# Altium schematic symbol library SmartInverter.SchLib: 67 symbols
Pins are listed as number, name and electrical type; pins without a type are passive.

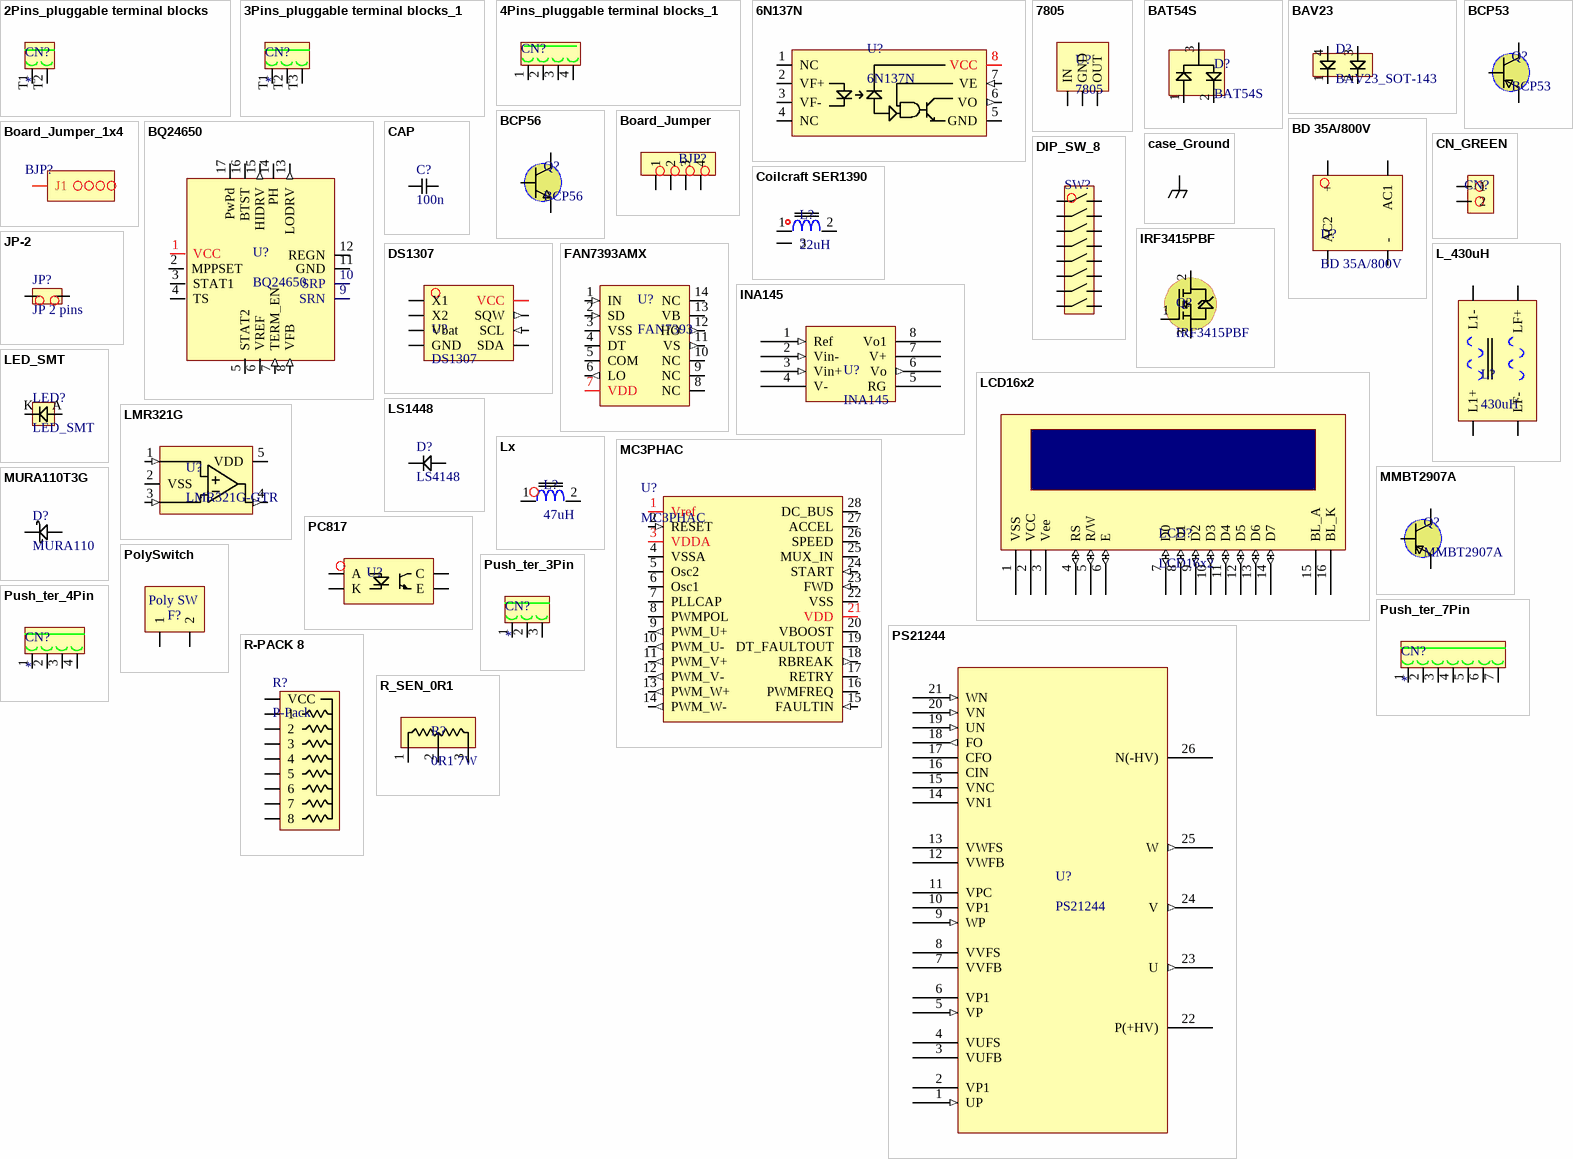
[diagram p0: symbols 2Pins_pluggable terminal blocks to R_SEN_0R1]

## 2Pins_pluggable terminal blocks
designator CN?
footprint 2Pins_terminal blocks_H
pins: T1, T2

## 3Pins_pluggable terminal blocks_1
designator CN?
footprint 3Pins_terminal blocks_H
pins: T1, T2, T3

## 4Pins_pluggable terminal blocks_1
designator CN?  (value not drawn)
footprint 4Pins_pluggable terminal blocks
pins: 1, 2, 3, 4

## 6N137N
designator U?
Opto Isolate 1MHz
footprint DIP-8_3D (DIP, 8-Pin, Row Spacing 7.62 mm, Pitch 2.54 mm)
pins: 1 NC (hiz), 2 VF+, 3 VF-, 4 NC (hiz), 5 GND, 6 VO (out), 7 VE (in), 8 VCC (power)

## 7805
designator U?
footprint TO-220AB (TO, Thru-Hole, Vertical, Heatsink Mounted; 3 In-Line Leads; Pitch 2.54 mm)
pins: 1 IN (power), 2 GND (power), 3 OUT (power)

## BAT54S
designator D?
Schottky Diodes 30V/200mA
footprint SOT23-3M (SOT23, 3-Leads, Body 2.9x1.3mm, Pitch 0.95mm, Lead Span 2.5mm, IPC Low Density)
pins: 1 A1, 2 K2, 3 K1/A2

## BAV23
designator D?, comment BAV23_SOT-143
footprint BAV23_SOT-143 (SOT-143 4 Leads; Body 3 x 3 mm, inc. leads (LxW max))
pins: 1 K1, 2 K2, 3 A2, 4 A1

## BCP53
designator Q?
NPN 80V/1A
footprint SOT223-4M (SOT223, 4-Leads, Body 6.5x3.5mm, Pitch 2.3mm, Lead Span 7mm, IPC Low Density)
pins: 1 B, 2 C, 3 E

## BCP56
designator Q?
NPN 80V/1A
footprint SOT223-4M (SOT223, 4-Leads, Body 6.5x3.5mm, Pitch 2.3mm, Lead Span 7mm, IPC Low Density)
pins: 1 B, 2 C, 3 E

## BD 35A/800V
designator D?
GBPC3508
footprint BD 35A
pins: +, -, AC1, AC2

## Board_Jumper
designator BJP?  (value not drawn)
footprint HDR1X4H
pins: 1, 2, 3, 4

## Board_Jumper_1x4
designator BJP?  (value not drawn)
footprint Board_Jumper_1x4
pins: J1

## BQ24650
designator U?
footprint PVQFN-N16 (BQ24650)
pins: 1 VCC (power), 2 MPPSET, 3 STAT1 (oc), 4 TS, 5 STAT2 (oc), 6 VREF, 7 TERM_EN (in), 8 VFB (in), 9 SRN, 10 SRP, 11 GND (power), 12 REGN, 13 LODRV (out), 14 PH, 15 HIDRV (out), 16 BTST, 17 PwPd (hiz)

## CAP
designator C?, comment 100n
footprint 2012[0805] - CAP (Chip Capacitor; Body 2.0 x 1.2 mm (LxW typ))
pins: 1, 2

## case_Ground
designator case_Ground, comment GND  (value not drawn)
footprint Case_GND
pins: 1

## CN_GREEN
designator CN?, comment CN_5mm  (value not drawn)
CN_pitch_5mm
footprint CN_GREEN (pitch 5mm)
pins: 1, 2

## Coilcraft SER1390
designator L?, comment 22uH
Coilcraft SER1390
footprint L47uH_2.5A (SM Inductor; 2 Leads; Body 12x12mm (LxW))
pins: 1, 2, 3

## DIP_SW_8
designator SW?, comment DIP-SW8  (value not drawn)
footprint Dip Sw 2x8
pins: 1, 2, 3, 4, 5, 6, 7, 8, 9, 10, 11, 12, 13, 14, 15, 16

## DS1307
designator U?
DS1307_SO-8
footprint SO8_M_3D (8-Pin Small Outline Integrated Circuit 1.27 mm Pitch, IPC Low Density)
pins: 1 X1, 2 X2, 3 Vbat, 4 GND (power), 5 SDA (io), 6 SCL (in), 7 SQW (out), 8 VCC (power)

## FAN7393AMX
designator U?, comment FAN7393
footprint SOP14
pins: 1 IN (in), 2 SD (in), 3 VSS (power), 4 DT, 5 COM (power), 6 LO (out), 7 VDD (power), 8 NC (hiz), 9 NC (hiz), 10 NC (hiz), 11 VS (out), 12 HO (out), 13 VB, 14 NC (hiz)

## INA145
designator U?
DIFFERENCE AMPLIFIER
footprint SO8_M_3D (8-Pin Small Outline Integrated Circuit 1.27 mm Pitch, IPC Low Density)
pins: 1 Ref (in), 2 Vin- (in), 3 Vin+ (in), 4 V- (power), 5 RG, 6 Vo (out), 7 V+ (power), 8 Vo1

## IRF3415PBF
designator Q?
POWER MOSFET N-CHANNEL 150V/43A
footprint TO-220AB (TO, Thru-Hole, Vertical, Heatsink Mounted; 3 In-Line Leads; Pitch 2.54 mm)
pins: 1 G, 2 D, 3 S

## JP-2
designator JP?, comment JP 2 pins
JP 2 pins 2.54mm
footprint Jumper (Jumper 2.54mm)
pins: 1, 2

## L_430uH
designator L?, comment 430uH
L 430uH 8A
footprint L_430uH
pins: 1 L1+, 2 L1-, 3 LF-, 4 LF+

## LCD16x2
designator LCD?
footprint LCD16
pins: 1 VSS (power), 2 VCC (power), 3 Vee, 4 RS (io), 5 R/W (io), 6 E (io), 7 D0 (io), 8 D1 (io), 9 D2 (io), 10 D3 (io), 11 D4 (io), 12 D5 (io), 13 D6 (io), 14 D7 (io), 15 BL_A (power), 16 BL_K (power)

## LED_SMT
designator LED?
LED_SMT,1206
footprint 3216[1206] - LED (Chip Capacitor; Body 3.2 x 1.6 mm (LxW typ))
pins: A, K

## LMR321G
designator U?, comment LMR321G-GTR
LMR321G-GTR OPAMP
footprint LMR321 (SOT-23/SC-74A; 5 Leads; Body 3 x 3 mm, inc. leads (LxW max))
pins: 1 +In (in), 2 VSS (power), 3 -In (in), 4 OUT (out), 5 VDD (power)

## LS1448
designator D?, comment LS4148
LS1448
footprint SOD-80_1206 (LS4148 Chip Diode; Body 3.2 x 1.6 mm)
pins: 1 A, 2 K

## Lx
designator L?, comment 47uH
47uH 2.5A B82477G4473M
footprint L47uH_2.5A (SM Inductor; 2 Leads; Body 12x12mm (LxW))
pins: 1, 2

## MC3PHAC
designator U?
Monolithic Intelligent  Motor Controller
footprint DIP-28 (DIP, 40-Pin, Row Spacing 15.24 mm, Pitch 2.54 mm)
pins: 1 Vref (power), 2 RESET (in), 3 VDDA (power), 4 VSSA (power) "GND", 5 Osc2, 6 Osc1, 7 PLLCAP, 8 PWMPOL, 9 PWM_U+ (out), 10 PWM_U- (out), 11 PWM_V+ (out), 12 PWM_V- (out), 13 PWM_W+ (out), 14 PWM_W- (out), 15 FAULTIN (in), 16 PWMFREQ, 17 RETRY, 18 RBREAK (out), 19 DT_FAULTOUT, 20 VBOOST, 21 VDD (power), 22 VSS (power) "GND", 23 FWD (in), 24 START (in), 25 MUX_IN, 26 SPEED, 27 ACCEL, 28 DC_BUS

## MMBT2907A
designator Q?
PNP
footprint SOT23 (SOT-23; 3 Leads; Body 3.0 x 2.6 mm, inc. leads (LxW max))
pins: 1 B, 2 E, 3 C

## MURA110T3G
designator D?, comment MURA110
MURA110T3G 1A/100V
footprint DO-214AC_SMA
pins: 1 A, 2 K

## PC817
designator U?  (value not drawn)
Opto
footprint PC817_SMD
pins: 1 A, 2 K, 3 E, 4 C

## PolySwitch
designator F?, comment Poly_SW  (value not drawn)
polyswitch 1.6A 72V
footprint Poly Switch (pitch 5mm)
pins: 1, 2
text: Poly SW

## PS21244
designator U?
MITSUBISHI Power Module
footprint MITSUBISHI DIP26
pins: 1 UP (in), 2 VP1 (power), 3 VUFB, 4 VUFS, 5 VP (in), 6 VP1 (power), 7 VVFB, 8 VVFS, 9 WP (in), 10 VP1 (power), 11 VPC (power), 12 VWFB, 13 VWFS, 14 VN1 (power), 15 VNC (power), 16 CIN, 17 CFO, 18 FO (out), 19 UN (in), 20 VN (in), 21 WN (in), 22 P(+HV) (power), 23 U (out), 24 V (out), 25 W (out), 26 N(-HV) (power), 27 NC (hiz) hidden, 28 NC (hiz) hidden

## Push_ter_3Pin
designator CN?
pitch 5, 10mm
footprint Push_Ter_3Pin (pitch 5*10)
pins: 1, 2, 3

## Push_ter_4Pin
designator CN?
pitch 2.5,5 mm
footprint Push_Ter_4Pin (pitch 2.5x5)
pins: 1, 2, 3, 4

## Push_ter_7Pin
designator CN?
pitch 5, 10mm
footprint Push_Ter_7Pin (pitch 5*10)
pins: 1, 2, 3, 4, 5, 6, 7

## R-PACK 8
designator R?, comment P-Pack
P-Pack 8
footprint R-PACK (res x 8)
pins: 1, 2, 3, 4, 5, 6, 7, 8, VCC

## R_SEN_0R1
designator R?, comment 0R1 7W
0R1 7W , Sensor Current
footprint R_SEN_0R1_7W
pins: 1, 2, 3

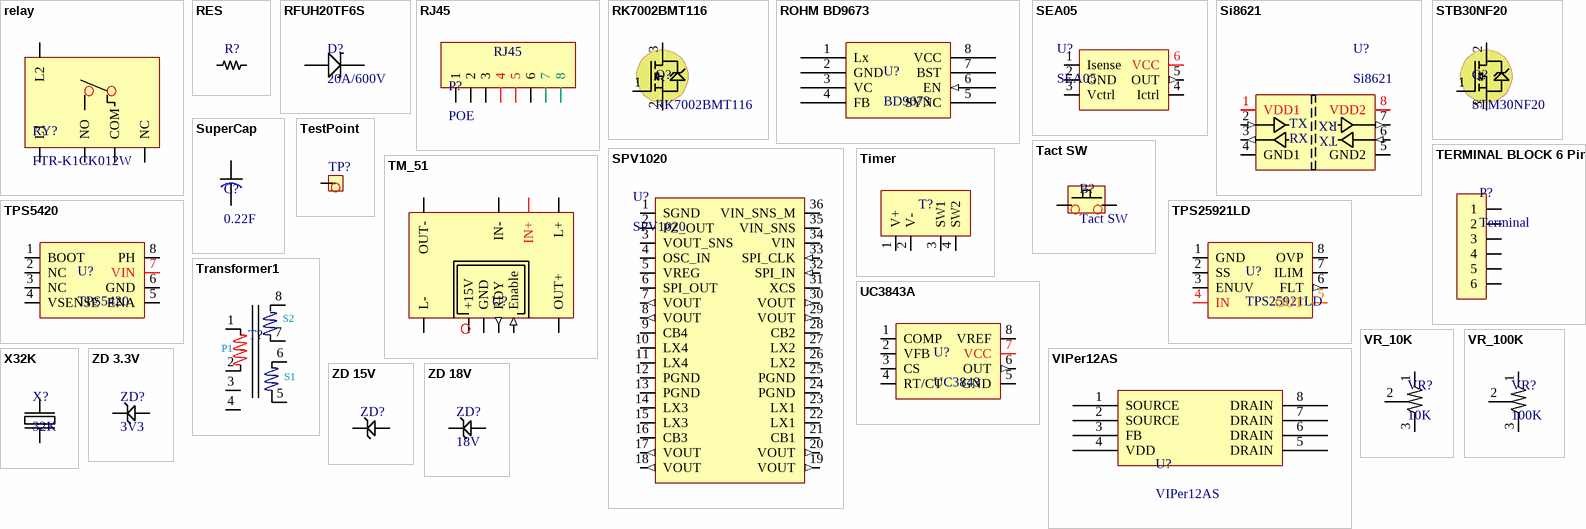
[diagram p1: symbols relay to ZD 18V]

## relay
designator RY?, comment FTR-K1CK012W
footprint Relay_12V (FTR-K1CK012W)
pins: 1 L1, 2 L2, 3 NO, 4 COM, 5 NC

## RES
designator R?, comment R  (value not drawn)
Res 0805
footprint 2012[0805] (Chip Resistor; Body 2.0 x 1.3 mm (LxW typ))
pins: 1, 2

## RFUH20TF6S
designator D?, comment 20A/600V
RFUH20TF6S 20A/600V
footprint RFUH20TF6S (Super Fast Rec 20A/600V)
pins: 1 K, 2 A

## RJ45
designator P?, comment POE
footprint RJ45 (ES# AJ-031-8-F-L4-N)
pins: 1, 2, 3, 4 (power), 5 (power), 6, 7 (power), 8 (power)

## RK7002BMT116
designator Q?
N-CH 200mW, 60V/250mA
footprint SOT23 (SOT-23; 3 Leads; Body 3.0 x 2.6 mm, inc. leads (LxW max))
pins: 1 G, 2 D, 3 S

## ROHM BD9673
designator U?, comment BD9673
Flexible Step-down  Switching Regulators
footprint HSOP-J8_3D (8-Pin Small Outline Integrated Circuit 1.27 mm Pitch, IPC High Density)
pins: 1 Lx, 2 GND (power), 3 VC, 4 FB, 5 SYNC, 6 EN (in), 7 BST, 8 VCC (power)

## SEA05
designator U?
Advanced constant voltage and constant current controller
footprint SOT23-6L (SEA05)
pins: 1 Isense, 2 GND (power), 3 Vctrl, 4 Ictrl, 5 OUT (out), 6 VCC (power)

## Si8621
designator U?
Opto Isolate 1MHz
footprint DIP-8_3D (DIP, 8-Pin, Row Spacing 7.62 mm, Pitch 2.54 mm)
pins: 1 VDD1 (power), 2 A1 (in), 3 B2 (out), 4 GND1 (power), 5 GND2, 6 B2 (in), 7 B1 (out), 8 VDD2 (power)
text: RX; TX

## SPV1020
designator U?
MPPT 10A
footprint SPV1020 PSSO-36 (SPV1020 MPPT 10A-Pitch 0.5 mm)
pins: 1 SGND (power), 2 PZ_OUT, 3 VOUT_SNS, 4 OSC_IN, 5 VREG, 6 SPI_OUT (io), 7 VOUT (out), 8 VOUT (out), 9 CB4, 10 LX4, 11 LX4, 12 PGND (power), 13 PGND (power), 14 LX3, 15 LX3, 16 CB3, 17 VOUT (out), 18 VOUT (out), 19 VOUT (out), 20 VOUT (out), 21 CB1, 22 LX1, 23 LX1, 24 PGND (power), 25 PGND (power), 26 LX2, 27 LX2, 28 CB2, 29 VOUT (out), 30 VOUT (out), 31 XCS, 32 SPI_IN (in), 33 SPI_CLK (in), 34 VIN, 35 VIN_SNS, 36 VIN_SNS_M

## STB30NF20
designator Q?, comment STM30NF20
POWER MOSFET N-CHANNEL 200V/30A
footprint DPAK(TO-263) (D2-PAK/TO-263-AB; 3 Leads (1 Cropped); Body 15.9 (inc. leads) x 10.4 mm (LxW max))
pins: 1 G, 2 D, 3 S

## SuperCap
designator C?, comment 0.22F
Super cap 0.22F #CDK-3R3E224U-E
footprint SuperCap
pins: V+ (power), V- (power)

## Tact SW
designator B?
footprint TACT-SW (SMT Tactile Switch (6mm x 6mm) - Height 4.30 mm)
pins: 1, 2

## TERMINAL BLOCK 6 Pin
designator P?, comment Terminal
6 pin
footprint Terminal
pins: 1, 2, 3, 4, 5, 6

## TestPoint
designator TP?, comment Test point  (value not drawn)
footprint PIN1
pins: 1

## Timer
designator T?, comment timer 12v  (value not drawn)
footprint Timer 4Pins
pins: 1 V+, 2 V-, 3 SW1, 4 SW2

## TM_51
designator U?, comment TM 51  (value not drawn)
PFC
footprint TM-51-Control
pins: 1 +15V (power), 2 GND (power), 3 RDY (out), 4 Enable (in), IN+ (power), IN- (power), L+ (power), L- (power), OUT+ (power), OUT- (power)

## TPS5420
designator U?
footprint SO8_M_3D (8-Pin Small Outline Integrated Circuit 1.27 mm Pitch, IPC Low Density)
pins: 1 BOOT, 2 NC (hiz), 3 NC (hiz), 4 VSENSE, 5 ENA (io), 6 GND (power), 7 VIN (power), 8 PH

## TPS25921LD
designator U?
E-Fuse 4.5-18V
footprint SO8_M_3D (8-Pin Small Outline Integrated Circuit 1.27 mm Pitch, IPC Low Density)
pins: 1 GND (power), 2 SS, 3 ENUV, 4 IN (power), 5 OUT (power), 6 FLT (out), 7 ILIM, 8 OVP

## Transformer1
designator T?, comment Transformer  (value not drawn)
footprint T1 (transformer)
pins: 1, 2, 3, 4 5, 5, 6, 7, 8
text: S2; P1; S1

## UC3843A
designator U?, comment UC3843
footprint SO8_M_3D (8-Pin Small Outline Integrated Circuit 1.27 mm Pitch, IPC Low Density)
pins: 1 COMP, 2 VFB (power), 3 CS, 4 RT/CT, 5 GND (power), 6 OUT (out), 7 VCC (power), 8 VREF

## VIPer12AS
designator U?
VIPer12AS SMPS Switcher
footprint SO8_M_3D (8-Pin Small Outline Integrated Circuit 1.27 mm Pitch, IPC Low Density)
pins: 1 SOURCE, 2 SOURCE, 3 FB, 4 VDD (power), 5 DRAIN, 6 DRAIN, 7 DRAIN, 8 DRAIN

## VR_10K
designator VR?, comment 10K
pins: 1, 2, 3

## VR_100K
designator VR?, comment 100K
100K BOURNS 3314G-1-104E
footprint VR100K (BOURNS 100K #3314G-1-104E)
pins: 1, 2, 3

## X32K
designator X?, comment 32K
footprint X-32K
pins: X1, X2

## ZD 3.3V
designator ZD?, comment 3V3
1N4728
footprint DO-41 (Diode, Axial 1n4001)
pins: 1 A, 2 K

## ZD 15V
designator ZD?, comment 15V  (value not drawn)
KDZTR15B
footprint SOD-123 (Metal Electrode Face (MELF) Diode; Body 3.5 x 1.5 mm (LxDia))
pins: 1 A, 2 K

## ZD 18V
designator ZD?, comment 18V
1N4746
footprint DO-41 (Diode, Axial 1n4001)
pins: 1 A, 2 k